# Altium footprint library so.PcbLib: 21 footprints (part 2 of 2)
Each footprint in its own frame and in the unit in brackets; x right, y up, seen from the top. Pads: shape width x height; smd on the part's side, far side on the other; paste and mask are expansions set on the pad; w line width, h text height; cw(c..) or ccw(c..) is an arc to the next point about the centre after c.
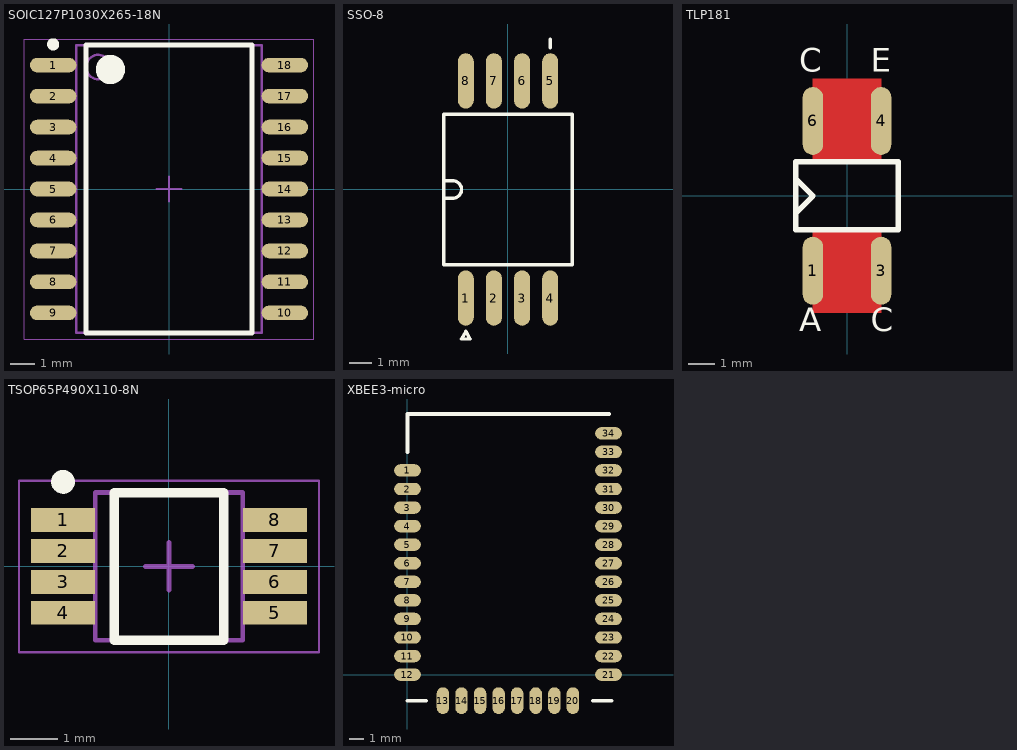
[diagram p1: the footprints below, top view; thin cyan lines are the x and y axes]

## SOIC127P1030X265-18N [mm] "SOIC, 18-Leads, Body 11.55x7.50mm, Pitch 1.27mm, IPC Medium Density"
height 2.65
pads (18):
  oval 1.9x0.6 smd: 1(-4.75,5.08) 2(-4.75,3.81) 3(-4.75,2.54) 4(-4.75,1.27) 5(-4.75,0) 6(-4.75,-1.27) 7(-4.75,-2.54) 8(-4.75,-3.81) 9(-4.75,-5.08) 10(4.75,-5.08) 11(4.75,-3.81) 12(4.75,-2.54) 13(4.75,-1.27) 14(4.75,0) 15(4.75,1.27) 16(4.75,2.54) 17(4.75,3.81) 18(4.75,5.08)
Top Overlay:
  circle w0.6: c-2.4,4.9 r0.3
  circle w0.25: c-4.75,5.93 r0.125
  lines w0.2: -3.4,-5.9 3.4,-5.9 3.4,5.9 -3.4,5.9 -3.4,-5.9
Mechanical 13:
  circle w0.1: c-2.9,5 r0.5
  lines w0.1: -3.8,-5.9 3.8,-5.9 3.8,5.9 -3.8,5.9 -3.8,-5.9
Mechanical 15:
  lines w0.05: -5.925,-6.15 5.925,-6.15 5.925,6.15 -5.925,6.15 -5.925,-6.15
  lines w0.1: -0.5,0 0.5,0 ; 0,-0.5 0,0.5
3D body "SOIC127P1030X265-18N.step": height 2.65, standoff 0, extent -5.15,-5.9 5.15,5.9

## SSO-8 [mm]
pads (8):
  oval 0.72x2.5 smd: 1(-1.905,-4.9) 2(-0.635,-4.9) 3(0.635,-4.9) 4(1.905,-4.9) 5(1.905,4.9) 6(0.635,4.9) 7(-0.635,4.9) 8(-1.905,4.9)
Top Overlay:
  lines w0.15: -2.9,-0.4 -2.5,-0.4 ccw(c-2.5,0) -2.5,0.4 -2.9,0.4 ; 1.905,6.39 1.905,6.79 ; -2.9,-3.4 -2.9,3.4 2.9,3.4 2.9,-3.4 -2.9,-3.4 ; -2.105,-6.746 -1.705,-6.746 -1.905,-6.4 -2.105,-6.746

## TLP181 [mm]
height 0.064
pads (4):
  oval 0.762x2.532 smd: 1(-1.27,-2.79) 3(1.27,-2.79) 4(1.27,2.79) 6(-1.27,2.79)
Top Layer:
  pour cut-out: -1.27,4.356 1.27,4.356 1.27,1.224 -1.27,1.224
  pour cut-out: -1.27,-1.224 1.27,-1.224 1.27,-4.356 -1.27,-4.356
Top Overlay:
  lines w0.203: -1.905,-0.635 -1.27,0 -1.905,0.635 ; -1.905,-1.27 -1.905,1.27 1.905,1.27 1.905,-1.27 -1.905,-1.27
  text "C" at -1.778,4.318 h1.52
  text "E" at 0.889,4.318 h1.52
  text "C" at 0.889,-5.334 h1.52
  text "A" at -1.778,-5.334 h1.52
3D body "TLP-181-Yale.STEP": height 2.3, standoff 0, extent -1.8,-3.5 1.8,3.5

## TSOP65P490X110-8N [mm] "TSOP, 8-Leads, Body 3.00x3.00mm, Pitch 0.65mm, IPC Medium Density"
height 1.1
pads (8):
  rect 1.35x0.5 smd: 1(-2.225,0.975) 2(-2.225,0.325) 3(-2.225,-0.325) 4(-2.225,-0.975) 5(2.225,-0.975) 6(2.225,-0.325) 7(2.225,0.325) 8(2.225,0.975)
Top Overlay:
  circle w0.25: c-2.225,1.775 r0.125
  lines w0.2: -1.15,-1.55 1.15,-1.55 1.15,1.55 -1.15,1.55 -1.15,-1.55
Mechanical 13:
  lines w0.1: -1.55,-1.55 1.55,-1.55 1.55,1.55 -1.55,1.55 -1.55,-1.55
Mechanical 15:
  lines w0.05: -3.15,-1.8 3.15,-1.8 3.15,1.8 -3.15,1.8 -3.15,-1.8
  lines w0.1: -0.5,0 0.5,0 ; 0,-0.5 0,0.5
3D body "TSOP65P490X110-8N.step": height 1.1, standoff 0, extent -2.45,-1.55 2.45,1.55

## XBEE3-micro [mm]
height 3
pads (34):
  oval 1.8x0.838 smd: 1(0,13.75) 2(0,12.5) 3(0,11.25) 4(0,10) 5(0,8.75) 6(0,7.5) 7(0,6.25) 8(0,5) 9(0,3.75) 10(0,2.5) 11(0,1.25) 12(0,0) 21(13.538,0) 22(13.538,1.25) 23(13.538,2.5) 24(13.538,3.75) 25(13.538,5) 26(13.538,6.25) 27(13.538,7.5) 28(13.538,8.75) 29(13.538,10) 30(13.538,11.25) 31(13.538,12.5) 32(13.538,13.75) 33(13.538,15) 34(13.538,16.25)
  oval 0.838x1.8 smd: 13(2.388,-1.753) 14(3.638,-1.753) 15(4.888,-1.753) 16(6.138,-1.753) 17(7.388,-1.753) 18(8.638,-1.753) 19(9.888,-1.753) 20(11.138,-1.753)
Top Overlay:
  lines w0.254: 0,-1.753 1.25,-1.753 ; 0,15 0,17.551 13.564,17.551 ; 12.5,-1.753 13.75,-1.753
3D body "XB3-24Z8CM-J--3DModel-STEP-56544.STEP": height 2.46, standoff 0, extent 0.018,-1.7 13.582,17.604